# EAGLE library part GH1.25-12P (library JST-GH1.25)
JST GH 1.25mm PITCH SMD HEADER
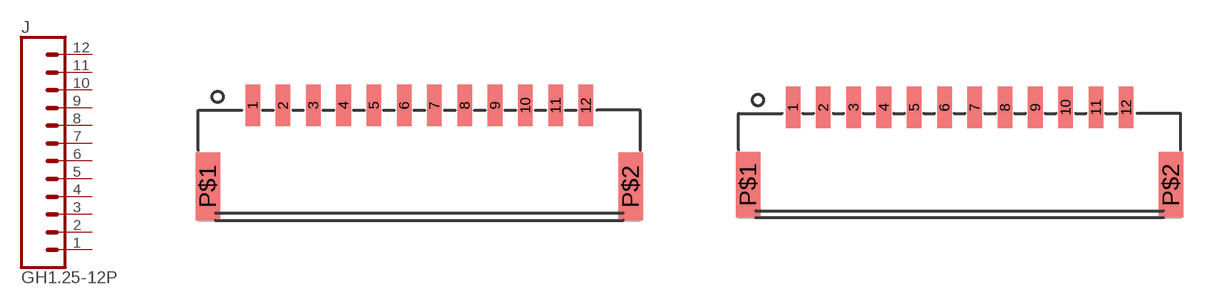
[diagram p6: symbol with the pads of BM12B-GHS-TBT; footprints BM12B-GHS-TBT, SM12B-GHS-TB]

Designator prefix J

## GH1.25-12P-BM12B-GHS-TBT  [BM12B-GHS-TBT]
1  1  pas
2  2  pas
3  3  pas
4  4  pas
5  5  pas
6  6  pas
7  7  pas
8  8  pas
9  9  pas
10  10  pas
11  11  pas
12  12  pas

## GH1.25-12P-SM12B-GHS-TB  [SM12B-GHS-TB]
Pads as for BM12B-GHS-TBT

## Footprint BM12B-GHS-TBT (pad centres in mm)
TOP ENTRY JST GH 1.25mm SMD HEADER
smd 0.6 x 1.7: 1 -6.875,4.75; 2 -5.625,4.75; 3 -4.375,4.75; 4 -3.125,4.75; 5 -1.875,4.75; 6 -0.625,4.75; 7 0.625,4.75; 8 1.875,4.75; 9 3.125,4.75; 10 4.375,4.75; 11 5.625,4.75; 12 6.875,4.75
smd 1 x 2.8: P$1 -8.725,1.4; P$2 8.725,1.4

## Footprint SM12B-GHS-TB (pad centres in mm)
SIDE ENTRY JST GH 1.25mm SMD HEADER
smd 0.6 x 1.7: 1 -6.875,4.55; 2 -5.625,4.55; 3 -4.375,4.55; 4 -3.125,4.55; 5 -1.875,4.55; 6 -0.625,4.55; 7 0.625,4.55; 8 1.875,4.55; 9 3.125,4.55; 10 4.375,4.55; 11 5.625,4.55; 12 6.875,4.55
smd 1 x 2.7: P$1 -8.725,1.35; P$2 8.725,1.35